# Altium footprint library PcbLib1.PcbLib: 17 footprints (part 2 of 2)
Each footprint in its own frame and in the unit in brackets; x right, y up, seen from the top. Pads: shape width x height; smd on the part's side, far side on the other; paste and mask are expansions set on the pad; w line width, h text height; cw(c..) or ccw(c..) is an arc to the next point about the centre after c.
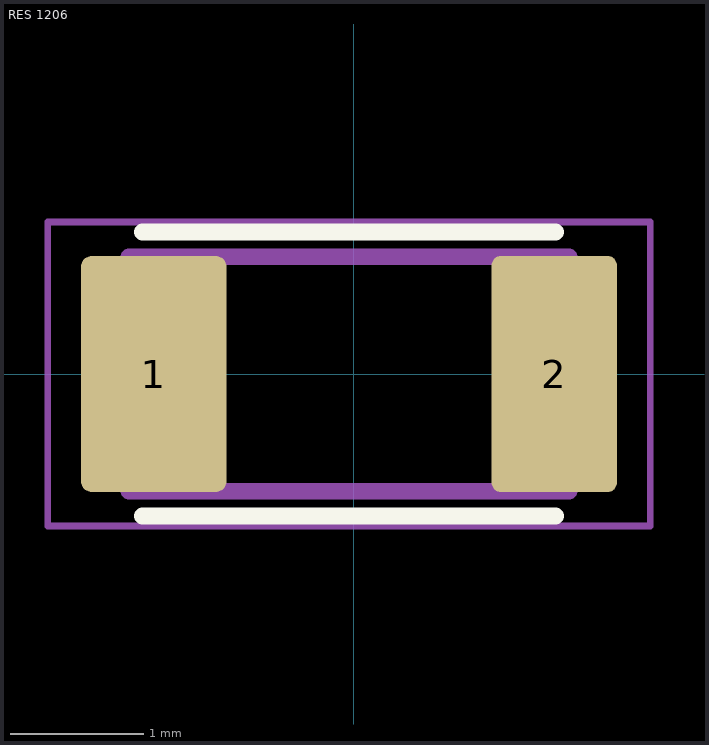
[diagram p1: the footprint, top view; thin cyan lines are the x and y axes]

## RES 1206 [mm]
pads (2):
  rrect14% 1.09x1.77 smd: 1(-1.502,0)
  rrect14% 0.94x1.77 smd: 2(1.503,0)
Top Overlay:
  lines w0.127: -1.587,-1.065 1.513,-1.065 ; -1.587,1.065 1.513,1.065
Mechanical 13:
  lines w0.127: -1.687,-0.88 1.613,-0.88 1.613,0.88 -1.687,0.88 -1.687,-0.88
Mechanical 15:
  lines w0.05: -2.297,-1.14 2.223,-1.14 2.223,1.14 -2.297,1.14 -2.297,-1.14